# EAGLE library part ADAFRUITPOWERBOOSTER(FYDE) (library Adafruit-PowerBoost-FYDE)
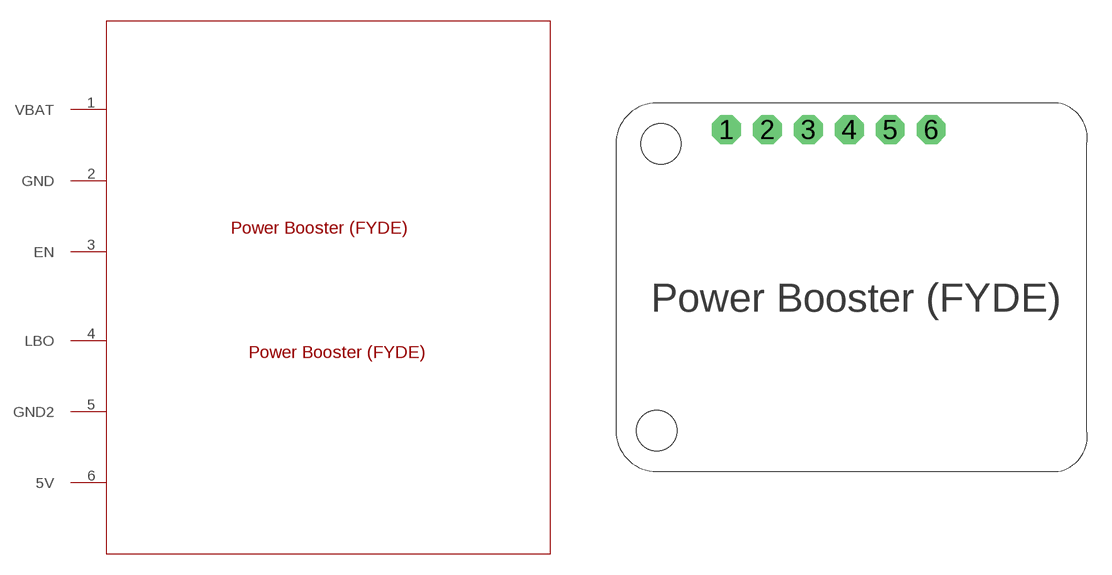
[diagram p0: symbol with the pads of ADAFRUITPOWERBOOSTER(FYDE); footprint ADAFRUITPOWERBOOSTER(FYDE)]

Designator prefix -

## ADAFRUITPOWERBOOSTER(FYDE)  [ADAFRUITPOWERBOOSTER(FYDE)]
1  VBAT
2  GND
3  EN
4  LBO
5  GND2
6  5V

## Footprint ADAFRUITPOWERBOOSTER(FYDE) (pad centres in mm)
drill 1.016 pad 1.778 octagon: 1 6.858,21.209; 2 9.398,21.209; 3 11.938,21.209; 4 14.478,21.209; 5 17.018,21.209; 6 19.558,21.209
hole 2.5 at 2.794,20.32
hole 2.5 at 2.54,2.54